# Altium footprint library surfaceMount.PcbLib: 37 footprints (part 1 of 3)
Each footprint in its own frame and in the unit in brackets; x right, y up, seen from the top. Pads: shape width x height; smd on the part's side, far side on the other; paste and mask are expansions set on the pad; w line width, h text height; cw(c..) or ccw(c..) is an arc to the next point about the centre after c.
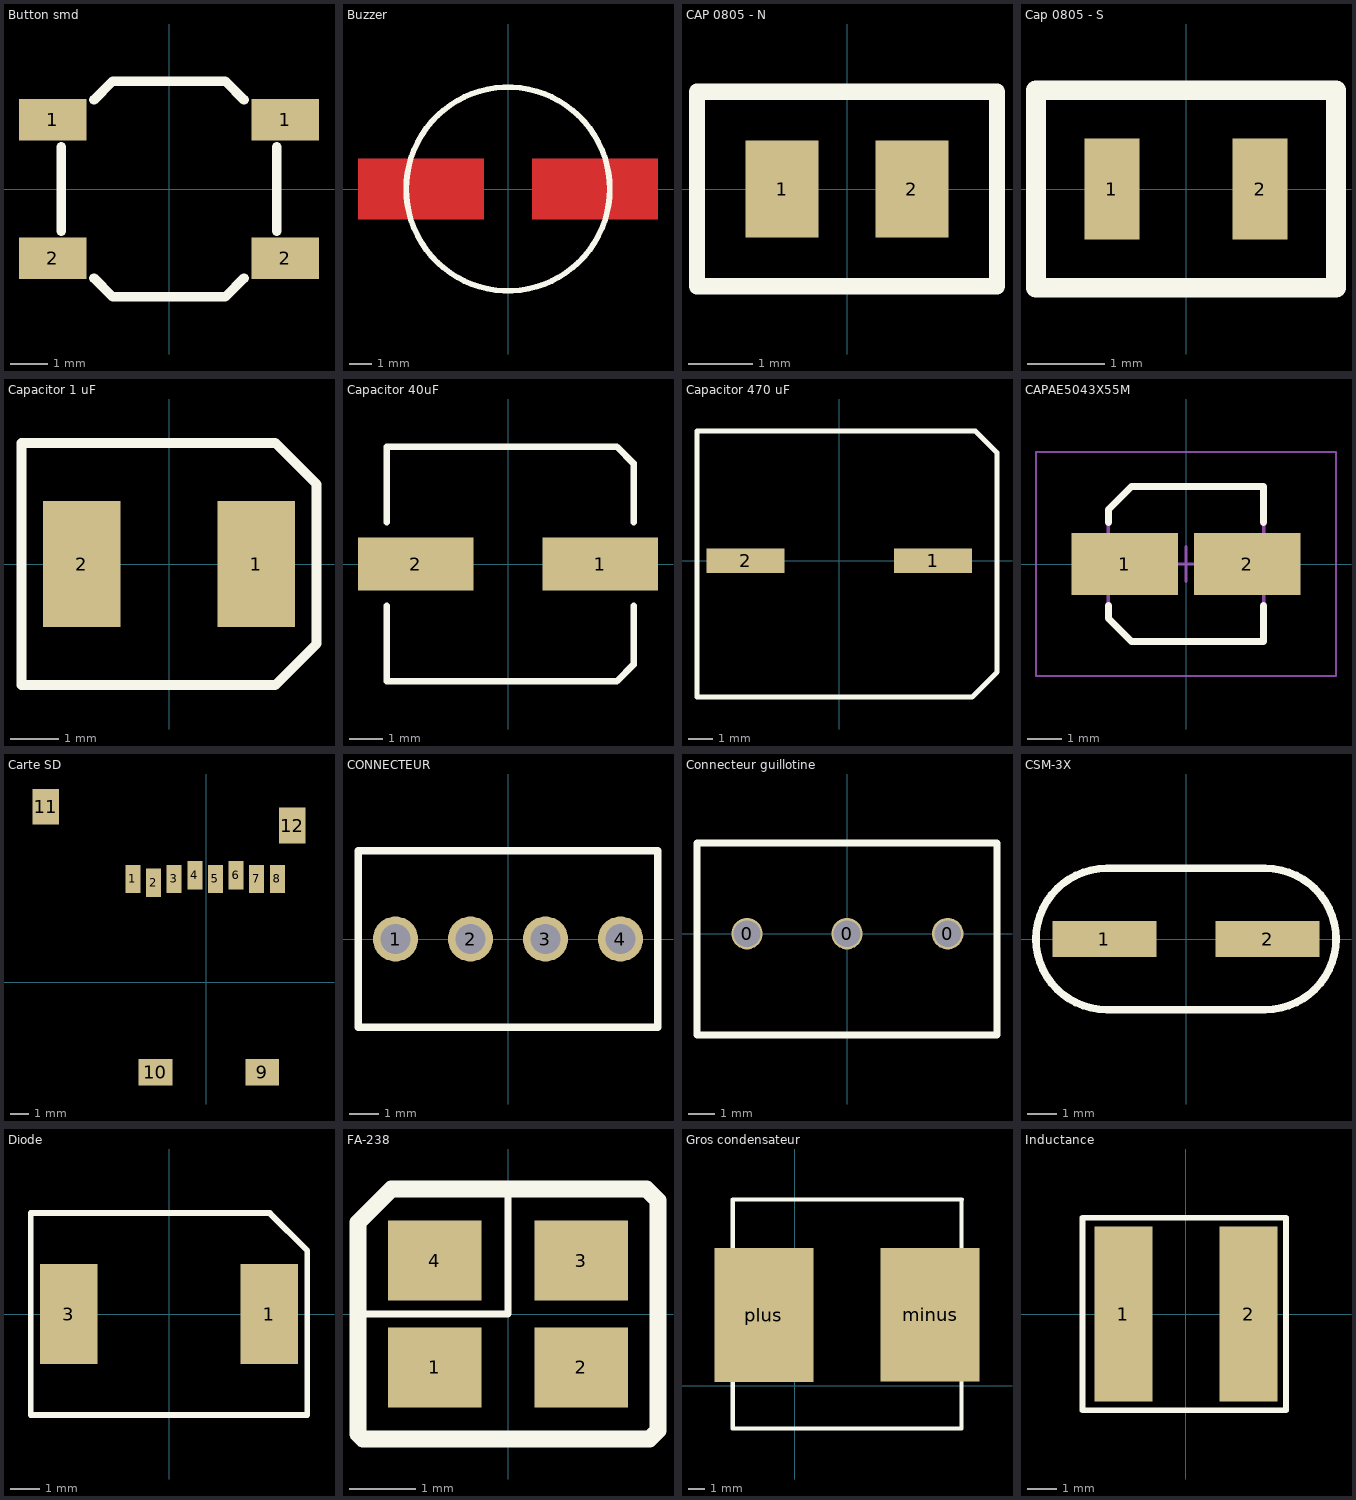
[diagram p0: the footprints below, top view; thin cyan lines are the x and y axes]

## Button smd [mm]
pads (4):
  rect 1.8x1.1 smd: 1(-3.1,1.85) 1(3.1,1.85) 2(-3.1,-1.85) 2(3.1,-1.85)
Top Overlay:
  lines w0.254: -2.875,-1.125 -2.875,1.125 ; -2,-2.375 -1.5,-2.875 1.5,-2.875 2,-2.375 ; -2,2.375 -1.5,2.875 1.5,2.875 2,2.375 ; 2.875,-1.125 2.875,1.125
3D body "Tactile_SMD_5x5mm.STEP": height 1.52, standoff 0, extent -3.25,-2.54 3.25,2.54

## Buzzer [mm]
Top Layer:
  rectangle: 1.092,-1.372 6.782,1.372
  rectangle: -6.782,-1.372 -1.092,1.372
Top Overlay:
  circle w0.254: c0,0 r4.604

## CAP 0805 - N [mil]
pads (2):
  rect 45x60 smd: 1(-40,0) 2(40,0)
Top Overlay:
  lines w10: -92.5,-60 -92.5,0 -92.5,60 92.5,60 92.5,-60 -92.5,-60
3D body "0805 SMD Capacitor.STEP": height 30.79, standoff 0, extent -39.37,-24.6 39.37,24.61

## Cap 0805 - S [mil]
pads (2):
  rect 28x51 smd: 1(-37.5,0) 2(37.5,0)
Top Overlay:
  lines w10: -76,-50 -76,0 -76,50 76,50 76,-50 -76,-50
3D body "0805 SMD Capacitor.STEP": height 30.79, standoff 0, extent -39.37,-24.6 39.37,24.61

## Capacitor 1 uF [mm]
pads (2):
  rect 1.6x2.6 smd: 1(1.8,0) 2(-1.8,0)
Top Overlay:
  lines w0.2: -3.048,-2.5 -3.048,0.752 -3.048,2.5 2.199,2.5 3.048,1.651 3.048,-1.651 2.199,-2.5 -3.048,-2.5
3D body "User Library-ALU-B.STEP": height 5.4, standoff 0, extent -2.3,-2.15 2.3,2.15

## Capacitor 40uF [mm]
pads (2):
  rect 3.5x1.6 smd: 1(2.8,0) 2(-2.8,0)
Top Overlay:
  lines w0.2: -3.683,-1.27 -3.683,-3.556 3.302,-3.556 3.81,-3.048 3.81,-1.27 ; -3.683,1.27 -3.683,3.556 2.286,3.556 3.175,3.556 3.302,3.556 3.81,3.048 3.81,1.27
3D body "User Library-capasitores electroliticos6,3x5,5.STEP": height 5.55, standoff 0, extent -3.3,-3.3 3.3,3.3

## Capacitor 470 uF [mm]
pads (2):
  rect 3.2x1 smd: 1(3.85,0) 2(-3.85,0)
Top Overlay:
  lines w0.2: -5.842,-5.588 5.461,-5.588 6.477,-4.572 6.477,4.445 5.588,5.334 -5.842,5.334 -5.842,1.608 -5.842,-5.588
3D body "User Library-CL_series_size10x13,5.step": height 13.5, standoff 0, extent -5.45,-5.277 5.45,5.023

## CAPAE5043X55M [mm] "Aluminum Electrolytic Capacitor, Body 4,30x4,30x5,50mm, IPC Low Density"
height 5.5
pads (2):
  rect 3.1x1.8 smd: 1(-1.775,0) 2(1.775,0)
Top Overlay:
  lines w0.2: -2.25,-1.2 -2.25,-1.575 -1.575,-2.25 2.25,-2.25 2.25,-1.2 ; -2.25,1.2 -2.25,1.575 -1.575,2.25 2.25,2.25 2.25,1.2
Mechanical 13:
  lines w0.1: -2.25,-1.575 -1.575,-2.25 2.25,-2.25 2.25,2.25 -1.575,2.25 -2.25,1.575 -2.25,-1.575
Mechanical 15:
  lines w0.05: -4.35,-3.25 -4.35,3.25 4.35,3.25 4.35,-3.25 -4.35,-3.25
  lines w0.1: -0.5,0 0.5,0 ; 0,-0.5 0,0.5
3D body "CAPAE5043X55M.step": height 5.5, standoff 0, extent -2.5,-2.25 2.5,2.25

## Carte SD [mm]
pads (12):
  rect 0.8x1.5 smd: 1(-3.919,5.52) 2(-2.819,5.32) 3(-1.719,5.52) 4(-0.619,5.72) 5(0.481,5.52) 6(1.581,5.72) 7(2.681,5.52) 8(3.781,5.52)
  rect 1.8x1.4 smd: 9(2.981,-4.78) 10(-2.719,-4.78)
  rect 1.4x1.9 smd: 11(-8.569,9.37) 12(4.581,8.37)
3D body "User Library-473521001_microSD.STEP": height 1.87, standoff -0.01, extent -9,-5.585 5.1,9.615

## CONNECTEUR [mil]
pads (4):
  round 60 hole 40: 1(-150,0) 2(-50,0) 3(50,0) 4(150,0)
Top Overlay:
  lines w10: -200,-118 -200,118 200,118 200,-118 -200,-118

## Connecteur guillotine [mil]
pads (3):
  round 47.24 hole 40: 0(-150,0) 0(0,0) 0(151,0)
Top Overlay:
  lines w10: -225,-152 225,-152 225,136 -225,136 -225,-151.4

## CSM-3X [mm] "Crystal 2 pins"
pads (2):
  rect 3.5x1.2 smd: 1(-2.75,0) 2(2.75,0)
Top Overlay:
  lines w0.254: -2.675,-2.375 cw(c-2.675,0) -2.675,2.375 2.675,2.375 cw(c2.675,0) 2.675,-2.375 -2.675,-2.375
3D body "User Library-CSM-3X.STEP": height 2.3, standoff 0, extent -3.8,-2.05 3.8,2.05

## Diode [mm]
pads (2):
  rect 1.96x3.39 smd: 1(3.405,0) 3(-3.405,0)
Top Overlay:
  lines w0.2: -4.699,-3.429 -4.699,-0.491 -4.699,3.429 3.429,3.429 4.699,2.159 4.699,-3.429 -4.699,-3.429
3D body "User Library-DO-214AB(SMC).step": height 2.64, standoff 0, extent -4.064,-3.124 4.064,3.175

## FA-238 [mm] "Crystal Oscillator 4 SMD"
pads (4):
  rect 1.4x1.2 smd: 1(-1.1,-0.8) 2(1.1,-0.8) 3(1.1,0.8) 4(-1.1,0.8)
Top Overlay:
  lines w0.1: -2.25,0 0,0 0,1.875
  lines w0.254: -2.25,-1.8 -2.25,1.375 -1.75,1.875 2.075,1.875 2.25,1.7 2.25,-1.75 2.125,-1.875 -2.175,-1.875 -2.25,-1.8
3D body "User Library-CTS.STEP": height 0.77, standoff 0, extent -1.6,-1.25 1.6,1.25

## Gros condensateur [mil]
pads (2):
  rect 230x311 smd: minus(315,165) plus(-72,164)
Top Overlay:
  lines w10: -144.71,-98 -144.71,-100 387.5,-100 ; -144,-100 -144,433 388.71,433 ; 388,-100 388,433

## Inductance [mm]
pads (2):
  rect 2x6 smd: 1(-2.15,0) 2(2.15,0)
Top Overlay:
  lines w0.2: -3.556,-3.302 3.429,-3.302 3.429,3.302 -3.556,3.302 -3.556,0.906 -3.556,-3.302
3D body "User Library-SRN6045 Series.STEP": height 4.5, standoff 0, extent -3.023,-3.127 3.277,2.873